# EAGLE library part OV7670 (library ov7670)
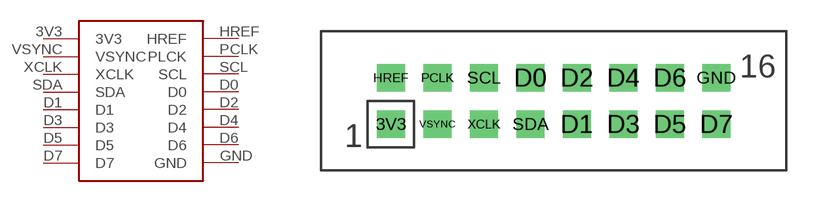
[diagram p0: symbol with the pads of OV7670; footprint OV7670]

Designator prefix -

## OV7670  [OV7670]
3V3  3V3
D0  D0
D1  D1
D2  D2
D3  D3
D4  D4
D5  D5
D6  D6
D7  D7
GND  GND
HREF  HREF
PCLK  PLCK
SCL  SCL
SDA  SDA
VSYNC  VSYNC
XCLK  XCLK

## Footprint OV7670 (pad centres in mm)
drill 1 square: 3V3 -7.62,0; D0 0,2.54; D1 2.54,0; D2 2.54,2.54; D3 5.08,0; D4 5.08,2.54; D5 7.62,0; D6 7.62,2.54; D7 10.16,0; GND 10.16,2.54; HREF -7.62,2.54; PCLK -5.08,2.54; SCL -2.54,2.54; SDA 0,0; VSYNC -5.08,0; XCLK -2.54,0